# EAGLE library part LM2576HVS-5.0/NOPB (library IC)
IC REG BUCK 5V 3A TO263-5 Manufacturer's datasheet <http://www.ti.com/general/docs/suppproductinfo.tsp?distId=10&gotoUrl=http%3A%2F%2Fwww.ti.com%2Flit%2Fgpn%2Flm2576hv>
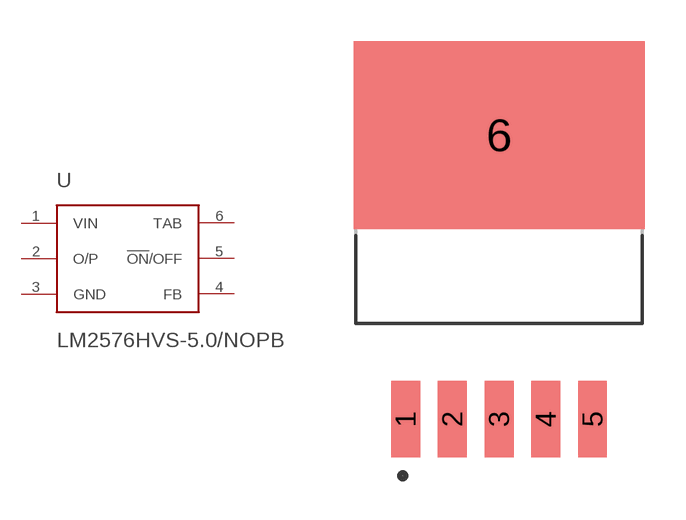
[diagram p11: symbol with the pads of DDPAK/TO-263-5; footprint DDPAK/TO-263-5]

Designator prefix U

## LM2576HVS-5.0/NOPB (CREATED_BY: PCBLayout.com; DIGIKEY_PART_NUMBER: LM2576HVS-5.0/NOPB-ND; MANUFACTURER: LM2576HVS-5.0/NOPB; MPN: LM2576HVS-5.0/NOPB; PACKAGE: DDPAK/TO-263-5)  [DDPAK/TO-263-5]
1  VIN  pwr
2  O/P  out
3  GND  pwr
4  FB  in
5  !ON!/OFF  in
6  TAB  pwr

## Footprint DDPAK/TO-263-5 (pad centres in mm)
smd 1.05 x 2.79: 1 -3.4,-6.19; 2 -1.7,-6.19; 3 0,-6.19; 4 1.7,-6.19; 5 3.4,-6.19
smd 10.58 x 6.84: 6 0,4.15